# Altium footprint library plane_and_via.PcbLib: 3 footprints
Each footprint in its own frame and in the unit in brackets; x right, y up, seen from the top. Pads: shape width x height; smd on the part's side, far side on the other; paste and mask are expansions set on the pad; w line width, h text height; cw(c..) or ccw(c..) is an arc to the next point about the centre after c.
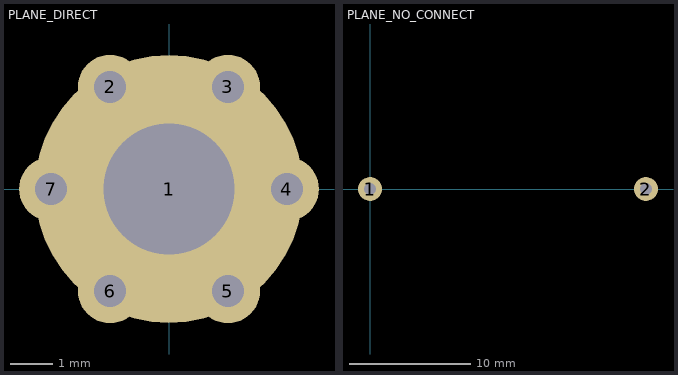
[diagram p0: the footprints below, top view; thin cyan lines are the x and y axes]

## PLANE_DIRECT [mil] "Pads with a Direct power-plane connection"
pads (7):
  round 250 hole 122.05: 1(0,0)
  round 60 hole 30: 2(-55,95.26) 3(55,95.26) 4(110,0) 5(55,-95.26) 6(-55,-95.26) 7(-110,0)

## PLANE_NO_CONNECT [mm] "Pads with a No Connect power-plane connection"
pads (2):
  round 2 hole 1: 1(0,0) 2(22.86,0)

## VIA_ENTRY [mil] "351-byte vias carrying a polygon-connect entry"
via -43.31,64.96 diameter 19.68 hole 7.87
via 0,64.96 diameter 19.68 hole 7.87
via 43.31,64.96 diameter 19.68 hole 7.87
via -43.31,21.65 diameter 19.68 hole 7.87
via 0,21.65 diameter 19.68 hole 7.87
via 43.31,21.65 diameter 19.68 hole 7.87
via -43.31,-21.65 diameter 19.68 hole 7.87
via 0,-21.65 diameter 19.68 hole 7.87
via 43.31,-21.65 diameter 19.68 hole 7.87
via -43.31,-64.96 diameter 19.68 hole 7.87
via 0,-64.96 diameter 19.68 hole 7.87
via 43.31,-64.96 diameter 19.68 hole 7.87